# Altium schematic symbol library LD39200PU33R.SchLib: 1 symbol
Pins are listed as number, name and electrical type; pins without a type are passive.

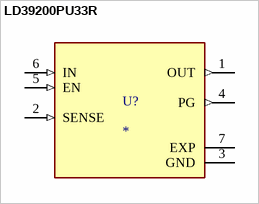
[diagram p0: symbol LD39200PU33R]

## LD39200PU33R
designator U?
Linear Voltage Regulator IC 1 Output 2A 6-DFN (3x3); MF: {'manufacturer': u'STMicroelectronics'}; MP: LD39200PU33R; Availability: Unavailable; Package: None; Price: None; Value: *
footprint SON95P300X300X100-7N
pins: 1 OUT (out), 2 SENSE (in), 3 GND (power), 4 PG (out), 5 EN (in), 6 IN (in), 7 EXP (power)